# Altium footprint library TXB0108YZPR2.PcbLib: 1 footprints
Each footprint in its own frame and in the unit in brackets; x right, y up, seen from the top. Pads: shape width x height; smd on the part's side, far side on the other; paste and mask are expansions set on the pad; w line width, h text height; cw(c..) or ccw(c..) is an arc to the next point about the centre after c.
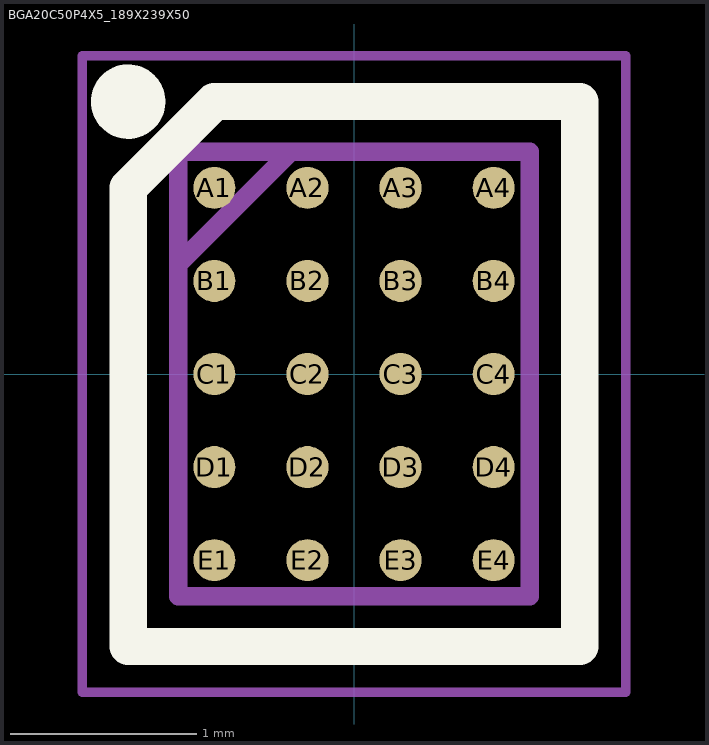
[diagram p0: the footprint, top view; thin cyan lines are the x and y axes]

## BGA20C50P4X5_189X239X50 [mm]
pads (20):
  round 0.226 smd: A1(-0.75,1) A2(-0.25,1) A3(0.25,1) A4(0.75,1) B1(-0.75,0.5) B2(-0.25,0.5) B3(0.25,0.5) B4(0.75,0.5) C1(-0.75,0) C2(-0.25,0) C3(0.25,0) C4(0.75,0) D1(-0.75,-0.5) D2(-0.25,-0.5) D3(0.25,-0.5) D4(0.75,-0.5) E1(-0.75,-1) E2(-0.25,-1) E3(0.25,-1) E4(0.75,-1)
Top Overlay:
  circle w0.2: c-1.213,1.463 r0.1
  lines w0.2: -1.213,-1.463 -1.213,1 -0.75,1.463 1.213,1.463 1.213,-1.463 -1.213,-1.463
Mechanical 13:
  lines w0.1: -0.944,0.59 -0.34,1.194 ; -0.944,-1.194 -0.944,1.194 0.944,1.194 0.944,-1.194 -0.944,-1.194
Mechanical 15:
  lines w0.05: -1.459,-1.709 -1.459,1.709 1.459,1.709 1.459,-1.709 -1.459,-1.709
3D body "TXB0108YZPR2.stp": height 0.5, standoff 0, extent -0.944,-1.194 0.944,1.194